# Altium footprint library PcbLib1.PcbLib: 14 footprints
Each footprint in its own frame and in the unit in brackets; x right, y up, seen from the top. Pads: shape width x height; smd on the part's side, far side on the other; paste and mask are expansions set on the pad; w line width, h text height; cw(c..) or ccw(c..) is an arc to the next point about the centre after c.
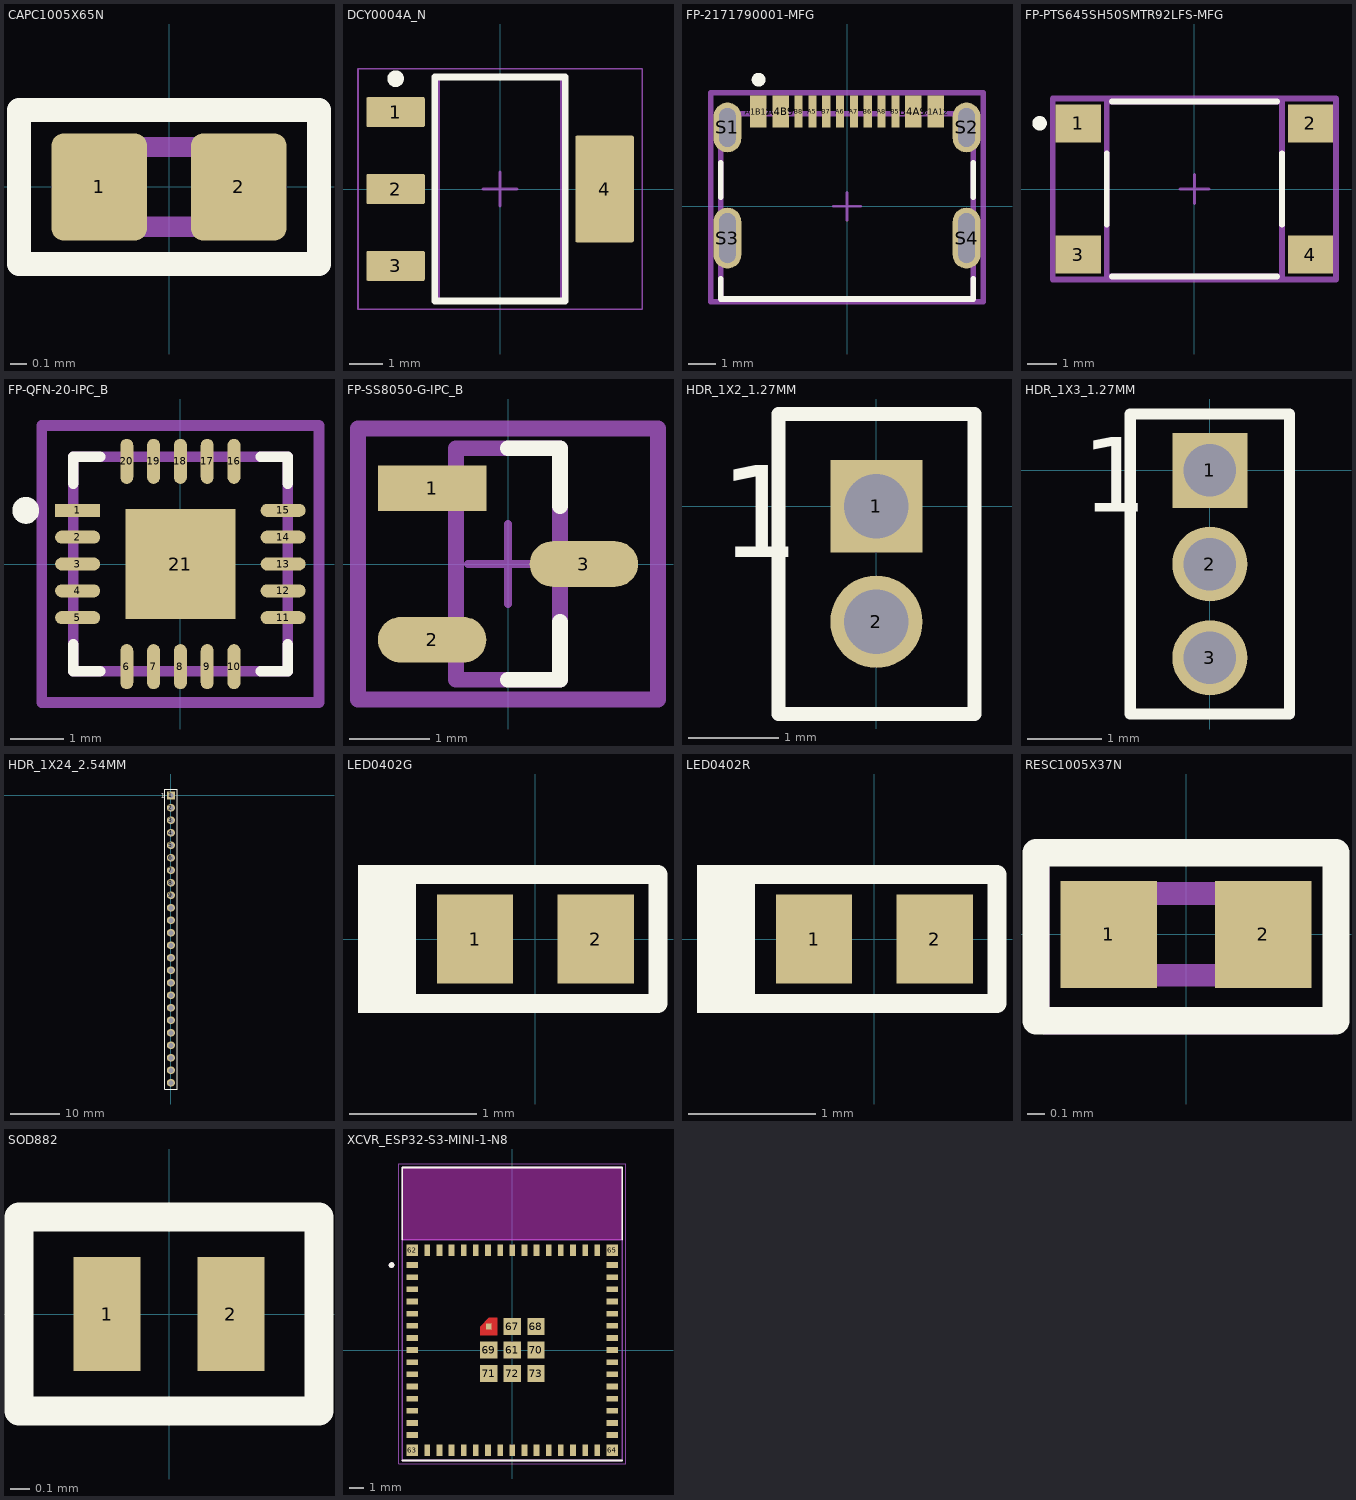
[diagram p0: the footprints below, top view; thin cyan lines are the x and y axes]

## CAPC1005X65N [mm]
pads (2):
  rrect25% 0.6x0.67 smd: 1(-0.437,0) 2(0.437,0)
Top Overlay:
  lines w0.152: -0.94,-0.483 -0.94,0.483 0.94,0.483 0.94,-0.483 -0.94,-0.483
Top 3D Body:
  lines w0.127: -0.5,-0.25 0.5,-0.25 0.5,0.25 -0.5,0.25 -0.5,-0.25
Top Courtyard:
  lines w0.05: -0.914,-0.508 0.914,-0.508 0.914,0.483 -0.914,0.483 -0.914,-0.508
3D body "step_temp.STEP": height 0.65, standoff 0, extent -0.5,-0.25 0.5,0.25

## DCY0004A_N [mm] "SOT223, 4-Leads, Body 6.7x3.7mm, Pitch 2.3mm, IPC Medium Density"
height 1.8
pads (4):
  rrect11% 1.75x0.9 smd: 1(-3.125,2.3) 2(-3.125,0) 3(-3.125,-2.3)
  rrect6% 1.75x3.2 smd: 4(3.125,0)
Top Overlay:
  circle w0.25: c-3.125,3.3 r0.125
  lines w0.2: -1.95,-3.35 1.95,-3.35 1.95,3.35 -1.95,3.35 -1.95,-3.35
Mechanical 1:
  text ".Designator" at -1.651,-0.254 h0.8
Top 3D Body:
  lines w0.1: -1.85,-3.35 1.85,-3.35 1.85,3.35 -1.85,3.35 -1.85,-3.35
Top Courtyard:
  lines w0.05: -4.25,-3.6 4.25,-3.6 4.25,3.6 -4.25,3.6 -4.25,-3.6
  lines w0.1: -0.5,0 0.5,0 ; 0,-0.5 0,0.5
3D body "SOT-223.stp": height 1.62, standoff -0.03, extent -3.5,-3.25 3.5,3.25

## FP-2171790001-MFG [mm]
pads (16):
  rect 0.6x1.15 smd paste+0 mask+0: A1B12(-3.2,3.425) A4B9(-2.4,3.425) B1A12(3.2,3.425) B4A9(2.4,3.425)
  rect 0.3x1.15 smd paste+0 mask+0: A5(-1.25,3.425) A6(-0.25,3.425) A7(0.25,3.425) A8(1.25,3.425) B5(1.75,3.425) B6(0.75,3.425) B7(-0.75,3.425) B8(-1.75,3.425)
  rrect100% 1x1.8 hole 1.4 slot 0.6 at 0 deg paste-2539.97 mask+0: S1(-4.32,2.85) S2(4.32,2.85)
  rrect100% 1x2.2 hole 1.8 slot 0.6 at 0 deg paste-2539.97 mask+0: S3(-4.32,-1.15) S4(4.32,-1.15)
Top Overlay:
  circle w0.25: c-3.195,4.575 r0.125
  lines w0.2: -4.57,-2.625 -4.57,-3.35 4.57,-3.35 4.57,-2.625 ; -4.57,0.325 -4.57,1.575 ; 4.57,0.325 4.57,1.575
Top Assembly:
  lines w0.2: -4.92,-3.45 -4.92,4.1 4.92,4.1 4.92,-3.45 -4.92,-3.45
  text ".Designator" at 0,0.513 h1
Top 3D Body:
  lines w0.2: -4.57,-3.35 -4.57,3.35 4.57,3.35 4.57,-3.35 -4.57,-3.35
Top Courtyard:
  lines w0.2: -4.92,-3.45 -4.92,4.1 4.92,4.1 4.92,-3.45 -4.92,-3.45
Top Component Center:
  lines w0.1: -0.5,0 0.5,0 ; 0,-0.5 0,0.5
3D body "Conn_Molex_2171790001_eec.STEP": height 0.25, standoff 0, extent -4.92,-3.45 4.92,4.1

## FP-PTS645SH50SMTR92LFS-MFG [mm]
pads (4):
  rect 1.55x1.3 smd paste+0 mask+0: 1(-3.975,2.25) 2(3.975,2.25) 3(-3.975,-2.25) 4(3.975,-2.25)
Top Overlay:
  circle w0.25: c-5.3,2.25 r0.125
  lines w0.2: -3,-1.225 -3,1.225 ; -2.825,-3 2.825,-3 ; -2.825,3 2.825,3 ; 3,-1.225 3,1.225
Top Assembly:
  lines w0.2: -4.85,-3.1 4.85,-3.1 4.85,3.1 -4.85,3.1 -4.85,-3.1
  text ".Designator" at 0,0.188 h1
Top 3D Body:
  lines w0.2: -3,-3 3,-3 3,3 -3,3 -3,-3
Top Courtyard:
  lines w0.2: -4.85,-3.1 4.85,-3.1 4.85,3.1 -4.85,3.1 -4.85,-3.1
Top Component Center:
  lines w0.1: -0.5,0 0.5,0 ; 0,-0.5 0,0.5
3D body "User Library-PTS645SL43SMTR92-LFS.STEP": height 4.3, standoff 0, extent -4.5,-3 4.5,3

## FP-QFN-20-IPC_B [mm]
pads (21):
  rect 0.84x0.242 smd paste+0 mask+0: 1(-1.916,1)
  rrect100% 0.84x0.242 smd paste+0 mask+0: 2(-1.916,0.5) 3(-1.916,0) 4(-1.916,-0.5) 5(-1.916,-1) 11(1.916,-1) 12(1.916,-0.5) 13(1.916,0) 14(1.916,0.5) 15(1.916,1)
  rrect100% 0.242x0.84 smd paste+0 mask+0: 6(-1,-1.916) 7(-0.5,-1.916) 8(0,-1.916) 9(0.5,-1.916) 10(1,-1.916) 16(1,1.916) 17(0.5,1.916) 18(0,1.916) 19(-0.5,1.916) 20(-1,1.916)
  rect 2.05x2.05 smd paste-1000 mask+0: 21(0,0)
Top Overlay:
  circle w0.25: c-2.885,1 r0.125
  lines w0.2: -2,-1.5 -2,-2 -1.5,-2 ; -2,1.5 -2,2 -1.5,2 ; 1.5,-2 2,-2 2,-1.5 ; 1.5,2 2,2 2,1.5
Top Paste:
  rectangle: -0.648,-0.648 0.648,0.648
Top Assembly:
  lines w0.2: -2.585,-2.585 2.585,-2.585 2.585,2.585 -2.585,2.585 -2.585,-2.585
  text ".Designator" at 0,0.188 h1
Top 3D Body:
  lines w0.2: -2,-2 2,-2 2,2 -2,2 -2,-2
Top Courtyard:
  lines w0.2: -2.585,-2.585 2.585,-2.585 2.585,2.585 -2.585,2.585 -2.585,-2.585
Top Component Center:
  lines w0.1: -0.5,0 0.5,0 ; 0,-0.5 0,0.5
3D body "IC_FTDI_FT231XQ-R_eec.STEP": height 0.25, standoff 0, extent -2.585,-2.585 2.585,2.585

## FP-SS8050-G-IPC_B [mm]
pads (3):
  rect 1.357x0.572 smd paste+0 mask+0: 1(-0.951,0.95)
  rrect100% 1.357x0.572 smd paste+0 mask+0: 2(-0.951,-0.95) 3(0.951,0)
Top Overlay:
  lines w0.2: 0,-1.45 0.65,-1.45 0.65,-0.725 ; 0,1.45 0.65,1.45 0.65,0.725
Top Assembly:
  lines w0.2: -1.879,-1.7 -1.879,1.7 1.879,1.7 1.879,-1.7 -1.879,-1.7
  text ".Designator" at 0,-0.001 h1
Top 3D Body:
  lines w0.2: -0.65,-1.45 -0.65,1.45 0.65,1.45 0.65,-1.45 -0.65,-1.45
Top Courtyard:
  lines w0.2: -1.879,-1.7 -1.879,1.7 1.879,1.7 1.879,-1.7 -1.879,-1.7
Top Component Center:
  lines w0.1: -0.5,0 0.5,0 ; 0,-0.5 0,0.5
3D body "Trans_Comchip_SS8050-G_eec.STEP": height 0.25, standoff 0, extent -1.879,-1.7 1.879,1.7

## HDR_1X2_1.27MM [mil]
pads (2):
  rect 40x40 hole 28: 1(0,0)
  round 40 hole 28: 2(0,-50)
Top Overlay:
  lines w6: -42.5,-90 42.5,-90 42.5,40 -42.5,40 -42.5,-90
  text "1" at -68,-22 h40
3D body "FTS-102-01-F-S.stp": height 154.5, standoff -89.5, extent -42.5,-75 42.5,25

## HDR_1X3_1.27MM [mil]
pads (3):
  rect 40x40 hole 28: 1(0,0)
  round 40 hole 28: 2(0,-50) 3(0,-100)
Top Overlay:
  lines w6: -42.5,-130 42.5,-130 42.5,30 -42.5,30 -42.5,-130
  text "1" at -68,-22 h40
3D body "FTS-103-01-F-S.stp": height 188.5, standoff -55.5, extent -42.5,-125 42.5,25

## HDR_1X24_2.54MM [mil]
pads (24):
  rect 64x64 hole 40: 1(0,0)
  round 64 hole 40: 2(0,-100) 3(0,-200) 4(0,-300) 5(0,-400) 6(0,-500) 7(0,-600) 8(0,-700) 9(0,-800) 10(0,-900) 11(0,-1000) 12(0,-1100) 13(0,-1200) 14(0,-1300) 15(0,-1400) 16(0,-1500) 17(0,-1600) 18(0,-1700) 19(0,-1800) 20(0,-1900) 21(0,-2000) 22(0,-2100) 23(0,-2200) 24(0,-2300)
Top Overlay:
  lines w10: -50,-2350 50,-2350 50,50 -50,50 -50,-2350
  text "1" at -81,-22 h40
3D body "0022284245.stp": height 385.5, standoff -119.5, extent -51,-2349 47,51

## LED0402G [mm]
pads (2):
  rect 0.6x0.7 smd: 1(-0.475,0) 2(0.475,0)
Top Overlay:
  rectangle: -1.397,-0.584 -0.94,0.584
  lines w0.152: -1.295,-0.508 0.965,-0.508 0.965,0.508 -1.295,0.508 -1.295,-0.508
3D body "User Library-LED_1006_G.STEP": height 0.2, standoff 0, extent -0.5,-0.3 0.5,0.3

## LED0402R [mm]
pads (2):
  rect 0.6x0.7 smd: 1(-0.475,0) 2(0.475,0)
Top Overlay:
  rectangle: -1.397,-0.584 -0.94,0.584
  lines w0.152: -1.295,-0.508 0.965,-0.508 0.965,0.508 -1.295,0.508 -1.295,-0.508
3D body "User Library-LED_1006_R.STEP": height 0.2, standoff 0, extent -0.5,-0.3 0.5,0.3

## RESC1005X37N [mm]
pads (2):
  rect 0.54x0.6 smd: 1(-0.432,0) 2(0.432,0)
Top Overlay:
  lines w0.152: -0.838,-0.483 -0.838,0.457 0.838,0.457 0.838,-0.483 -0.838,-0.483
Top 3D Body:
  lines w0.127: -0.53,-0.229 0.53,-0.229 0.53,0.229 -0.53,0.229 -0.53,-0.229
Top Courtyard:
  lines w0.05: -0.787,-0.533 -0.787,0.483 0.813,0.483 0.813,-0.533 -0.787,-0.533
3D body "step_temp.STEP": height 0.37, standoff 0, extent -0.5,-0.25 0.5,0.25

## SOD882 [mm]
pads (2):
  rect 0.35x0.6 smd: 1(-0.325,0) 2(0.325,0)
Top Overlay:
  lines w0.152: -0.787,-0.508 -0.787,0.508 0.787,0.508 0.787,-0.508 -0.787,-0.508
3D body "AQ3045-01ETG.stp": height 0.44, standoff 0.01, extent -0.535,-0.335 0.535,0.34

## XCVR_ESP32-S3-MINI-1-N8 [mm]
height 2.55
pads (73):
  rect 0.8x0.4 smd: 1(-7,5.95) 2(-7,5.1) 3(-7,4.25) 4(-7,3.4) 5(-7,2.55) 6(-7,1.7) 7(-7,0.85) 8(-7,0) 9(-7,-0.85) 10(-7,-1.7) 11(-7,-2.55) 12(-7,-3.4) 13(-7,-4.25) 14(-7,-5.1) 15(-7,-5.95) 31(7,-5.95) 32(7,-5.1) 33(7,-4.25) 34(7,-3.4) 35(7,-2.55) 36(7,-1.7) 37(7,-0.85) 38(7,0) 39(7,0.85) 40(7,1.7) 41(7,2.55) 42(7,3.4) 43(7,4.25) 44(7,5.1) 45(7,5.95)
  rect 0.4x0.8 smd: 16(-5.95,-7) 17(-5.1,-7) 18(-4.25,-7) 19(-3.4,-7) 20(-2.55,-7) 21(-1.7,-7) 22(-0.85,-7) 23(0,-7) 24(0.85,-7) 25(1.7,-7) 26(2.55,-7) 27(3.4,-7) 28(4.25,-7) 29(5.1,-7) 30(5.95,-7) 46(5.95,7) 47(5.1,7) 48(4.25,7) 49(3.4,7) 50(2.55,7) 51(1.7,7) 52(0.85,7) 53(0,7) 54(-0.85,7) 55(-1.7,7) 56(-2.55,7) 57(-3.4,7) 58(-4.25,7) 59(-5.1,7) 60(-5.95,7)
  rect 1.2x1.2 smd: 61(0,0) 67(0,1.65) 68(1.65,1.65) 69(-1.65,0) 70(1.65,0) 71(-1.65,-1.65) 72(0,-1.65) 73(1.65,-1.65)
  rect 0.8x0.8 smd: 62(-7,7) 63(-7,-7) 64(7,-7) 65(7,7)
  rect 0.4x0.4 smd paste-1 mask+0: 66(-1.65,1.65)
Top Layer:
  region: -1.05,1.05 -2.25,1.05 -2.25,1.65 -1.65,2.25 -1.05,2.25
Top Overlay:
  circle w0.2: c-8.45,5.95 r0.1
  lines w0.127: -7.7,-7.725 7.7,-7.725 ; -7.7,7.725 -7.7,12.775 7.7,12.775 7.7,7.725
Top Paste:
  region: -1.05,1.05 -2.25,1.05 -2.25,1.65 -1.65,2.25 -1.05,2.25
Top Solder:
  region: -0.95,0.95 -2.35,0.95 -2.35,1.7 -1.7,2.35 -0.95,2.35
Keep-Out Layer:
  region: 7.7,7.725 -7.7,7.725 -7.7,12.775 7.7,12.775
  region: 7.7,7.725 -7.7,7.725 -7.7,12.775 7.7,12.775
Top 3D Body:
  circle w0.2: c-8.45,5.95 r0.1
  lines w0.127: -7.7,7.725 7.7,7.725 ; -7.7,7.725 -7.7,12.775 7.7,12.775 7.7,7.725 ; -7.7,7.725 -7.7,-7.725 7.7,-7.725 7.7,7.725
Top Courtyard:
  lines w0.05: -7.95,-7.975 7.95,-7.975 7.95,13.025 -7.95,13.025 -7.95,-7.975
3D body "ESP32-S3-MINI-1-N8--3DModel-STEP-510211.STEP": height 2.56, standoff 0.01, extent -7.776,-7.812 7.624,12.688